# Altium footprint library SC_E2_PEG.PcbLib: 1 footprints
Each footprint in its own frame and in the unit in brackets; x right, y up, seen from the top. Pads: shape width x height; smd on the part's side, far side on the other; paste and mask are expansions set on the pad; w line width, h text height; cw(c..) or ccw(c..) is an arc to the next point about the centre after c.
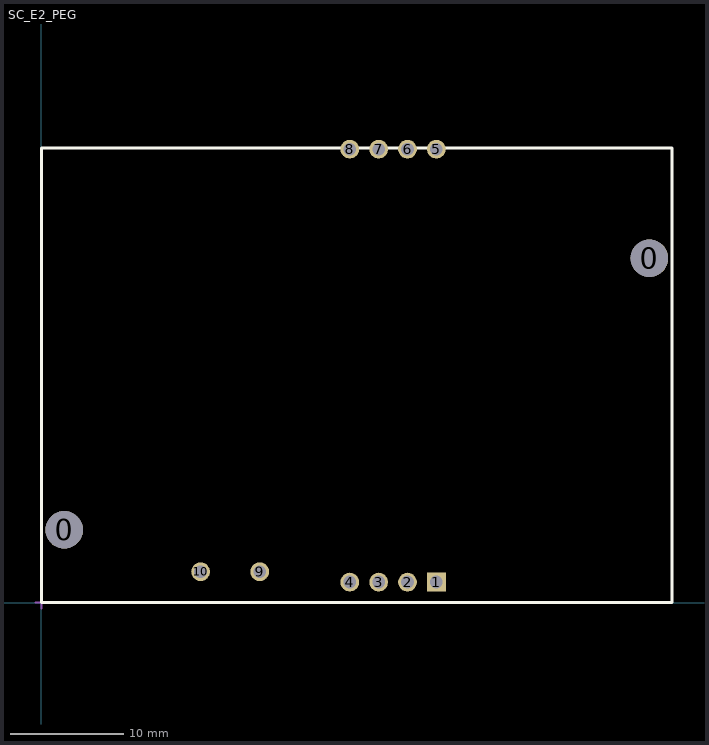
[diagram p0: the footprint, top view; thin cyan lines are the x and y axes]

## SC_E2_PEG [mil] "Smart Card Reader E2 With PEG"
height 157.48
pads (12):
  round 129.92 hole 129.92: 0(78.74,251.87) 0(2106.3,1192.87)
  rect 65x65 hole 44: 1(1368.11,70.87)
  round 65 hole 44: 2(1268.11,70.87) 3(1168.11,70.87) 4(1068.11,70.87) 5(1368.11,1570.87) 6(1268.11,1570.87) 7(1168.11,1570.87) 8(1068.11,1570.87) 9(755.9,106.87) 10(551.18,106.87)
Top Overlay:
  lines w10: 0,0 0,1574.8 2185.04,1574.8 2185.04,0 0,0
Mechanical 15:
  lines w7.87: -19.68,0 19.68,0 ; 0,-19.68 0,19.68
3D body: height 196.85, standoff 0, extent 0,0 2185.04,1574.8